# EAGLE library part BA5417 (library Audio-Power-amplifier)
High-output dual power amplifier
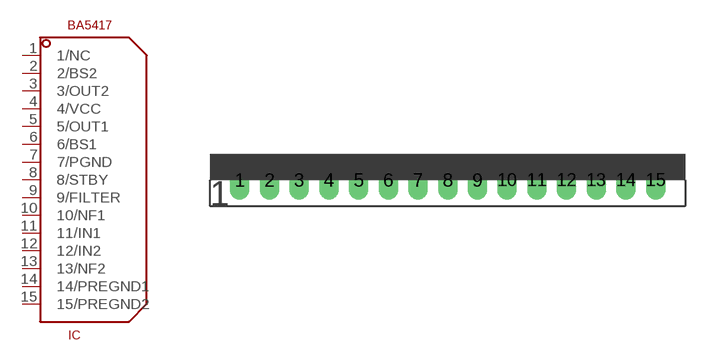
[diagram p49: symbol with the pads of HSIP15; footprint HSIP15]

Designator prefix IC

## BA5417  [HSIP15]
1  1/NC  nc
2  2/BS2
3  3/OUT2  out
4  4/VCC  pwr
5  5/OUT1  out
6  6/BS1
7  7/PGND  pwr
8  8/STBY
9  9/FILTER
10  10/NF1
11  11/IN1  in
12  12/IN2  in
13  13/NF2
14  14/PREGND1  pwr
15  15/PREGND2  pwr

## Footprint HSIP15 (pad centres in mm)
drill 0.8 long: 1 -13.97,-1.27; 2 -11.97,-1.27; 3 -9.97,-1.27; 4 -7.97,-1.27; 5 -5.97,-1.27; 6 -3.97,-1.27; 7 -1.97,-1.27; 8 0.03,-1.27; 9 2.03,-1.27; 10 4.03,-1.27; 11 6.03,-1.27; 12 8.03,-1.27; 13 10.03,-1.27; 14 12.03,-1.27; 15 14.03,-1.27